# Altium schematic symbol library SCH - MCU - SI LABS - SI LABS BGM210PA32JIA 31-PIN LGA 12.9X15.SchLib: 1 symbol
Pins are listed as number, name and electrical type; pins without a type are passive.

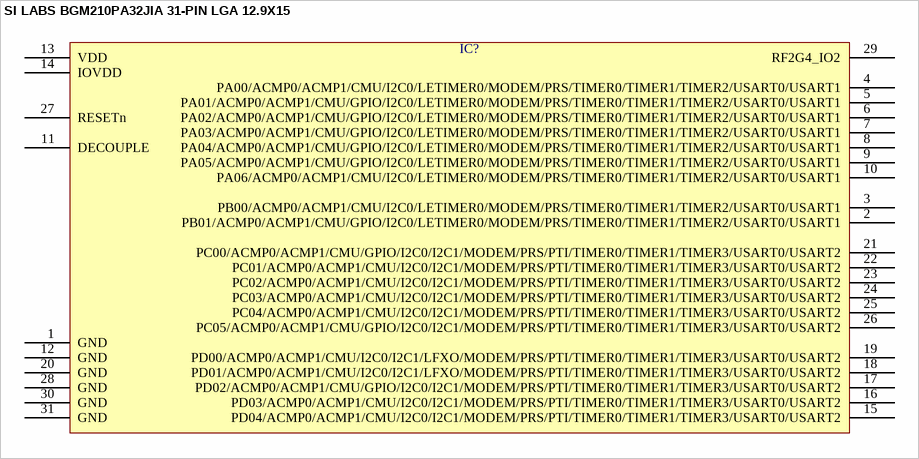
[diagram p0: symbol SI LABS BGM210PA32JIA 31-PIN LGA 12.9X15]

## SI LABS BGM210PA32JIA 31-PIN LGA 12.9X15
designator IC?  (value not drawn)
pins: 1 GND, 2 PB01/ACMP0/ACMP1/CMU/GPIO/I2C0/LETIMER0/MODEM/PRS/TIMER0/TIMER1/TIMER2/USART0/USART1, 3 PB00/ACMP0/ACMP1/CMU/I2C0/LETIMER0/MODEM/PRS/TIMER0/TIMER1/TIMER2/USART0/USART1, 4 PA00/ACMP0/ACMP1/CMU/I2C0/LETIMER0/MODEM/PRS/TIMER0/TIMER1/TIMER2/USART0/USART1, 5 PA01/ACMP0/ACMP1/CMU/GPIO/I2C0/LETIMER0/MODEM/PRS/TIMER0/TIMER1/TIMER2/USART0/USART1, 6 PA02/ACMP0/ACMP1/CMU/GPIO/I2C0/LETIMER0/MODEM/PRS/TIMER0/TIMER1/TIMER2/USART0/USART1, 7 PA03/ACMP0/ACMP1/CMU/GPIO/I2C0/LETIMER0/MODEM/PRS/TIMER0/TIMER1/TIMER2/USART0/USART1, 8 PA04/ACMP0/ACMP1/CMU/GPIO/I2C0/LETIMER0/MODEM/PRS/TIMER0/TIMER1/TIMER2/USART0/USART1, 9 PA05/ACMP0/ACMP1/CMU/GPIO/I2C0/LETIMER0/MODEM/PRS/TIMER0/TIMER1/TIMER2/USART0/USART1, 10 PA06/ACMP0/ACMP1/CMU/I2C0/LETIMER0/MODEM/PRS/TIMER0/TIMER1/TIMER2/USART0/USART1, 11 DECOUPLE, 12 GND, 13 VDD, 14 IOVDD, 15 PD04/ACMP0/ACMP1/CMU/I2C0/I2C1/MODEM/PRS/PTI/TIMER0/TIMER1/TIMER3/USART0/USART2, 16 PD03/ACMP0/ACMP1/CMU/I2C0/I2C1/MODEM/PRS/PTI/TIMER0/TIMER1/TIMER3/USART0/USART2, 17 PD02/ACMP0/ACMP1/CMU/GPIO/I2C0/I2C1/MODEM/PRS/PTI/TIMER0/TIMER1/TIMER3/USART0/USART2, 18 PD01/ACMP0/ACMP1/CMU/I2C0/I2C1/LFXO/MODEM/PRS/PTI/TIMER0/TIMER1/TIMER3/USART0/USART2, 19 PD00/ACMP0/ACMP1/CMU/I2C0/I2C1/LFXO/MODEM/PRS/PTI/TIMER0/TIMER1/TIMER3/USART0/USART2, 20 GND, 21 PC00/ACMP0/ACMP1/CMU/GPIO/I2C0/I2C1/MODEM/PRS/PTI/TIMER0/TIMER1/TIMER3/USART0/USART2, 22 PC01/ACMP0/ACMP1/CMU/I2C0/I2C1/MODEM/PRS/PTI/TIMER0/TIMER1/TIMER3/USART0/USART2, 23 PC02/ACMP0/ACMP1/CMU/I2C0/I2C1/MODEM/PRS/PTI/TIMER0/TIMER1/TIMER3/USART0/USART2, 24 PC03/ACMP0/ACMP1/CMU/I2C0/I2C1/MODEM/PRS/PTI/TIMER0/TIMER1/TIMER3/USART0/USART2, 25 PC04/ACMP0/ACMP1/CMU/I2C0/I2C1/MODEM/PRS/PTI/TIMER0/TIMER1/TIMER3/USART0/USART2, 26 PC05/ACMP0/ACMP1/CMU/GPIO/I2C0/I2C1/MODEM/PRS/PTI/TIMER0/TIMER1/TIMER3/USART0/USART2, 27 RESETn, 28 GND, 29 RF2G4_IO2, 30 GND, 31 GND